# Altium footprint library Throughhole_footprints.PcbLib: 2 footprints
Each footprint in its own frame and in the unit in brackets; x right, y up, seen from the top. Pads: shape width x height; smd on the part's side, far side on the other; paste and mask are expansions set on the pad; w line width, h text height; cw(c..) or ccw(c..) is an arc to the next point about the centre after c.
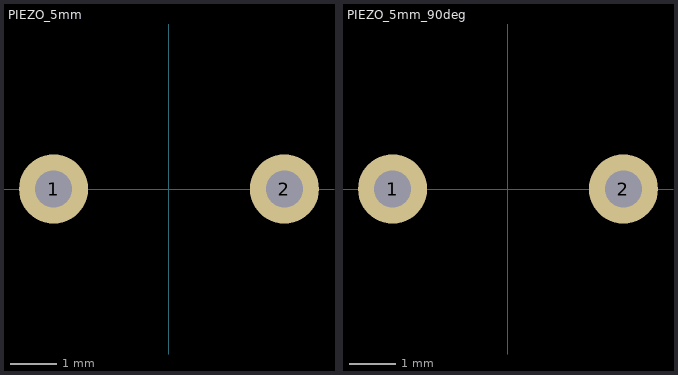
[diagram p0: the footprints below, top view; thin cyan lines are the x and y axes]

## PIEZO_5mm [mm] "Piezo element with 5mm pitch"
pads (2):
  round 1.5 hole 0.8: 1(-2.5,0) 2(2.5,0)
3D body: height 6.5, standoff 0, extent -6,-6 6,6

## PIEZO_5mm_90deg [mm] "Piezo element with 5mm pitch, 90 degree tilted"
pads (2):
  round 1.5 hole 0.8: 1(-2.5,0) 2(2.5,0)
3D body: height 6, standoff -6, extent -6,1.5 6,8